# Altium schematic symbol library YGOLib.SchLib: 51 symbols
Pins are listed as number, name and electrical type; pins without a type are passive.

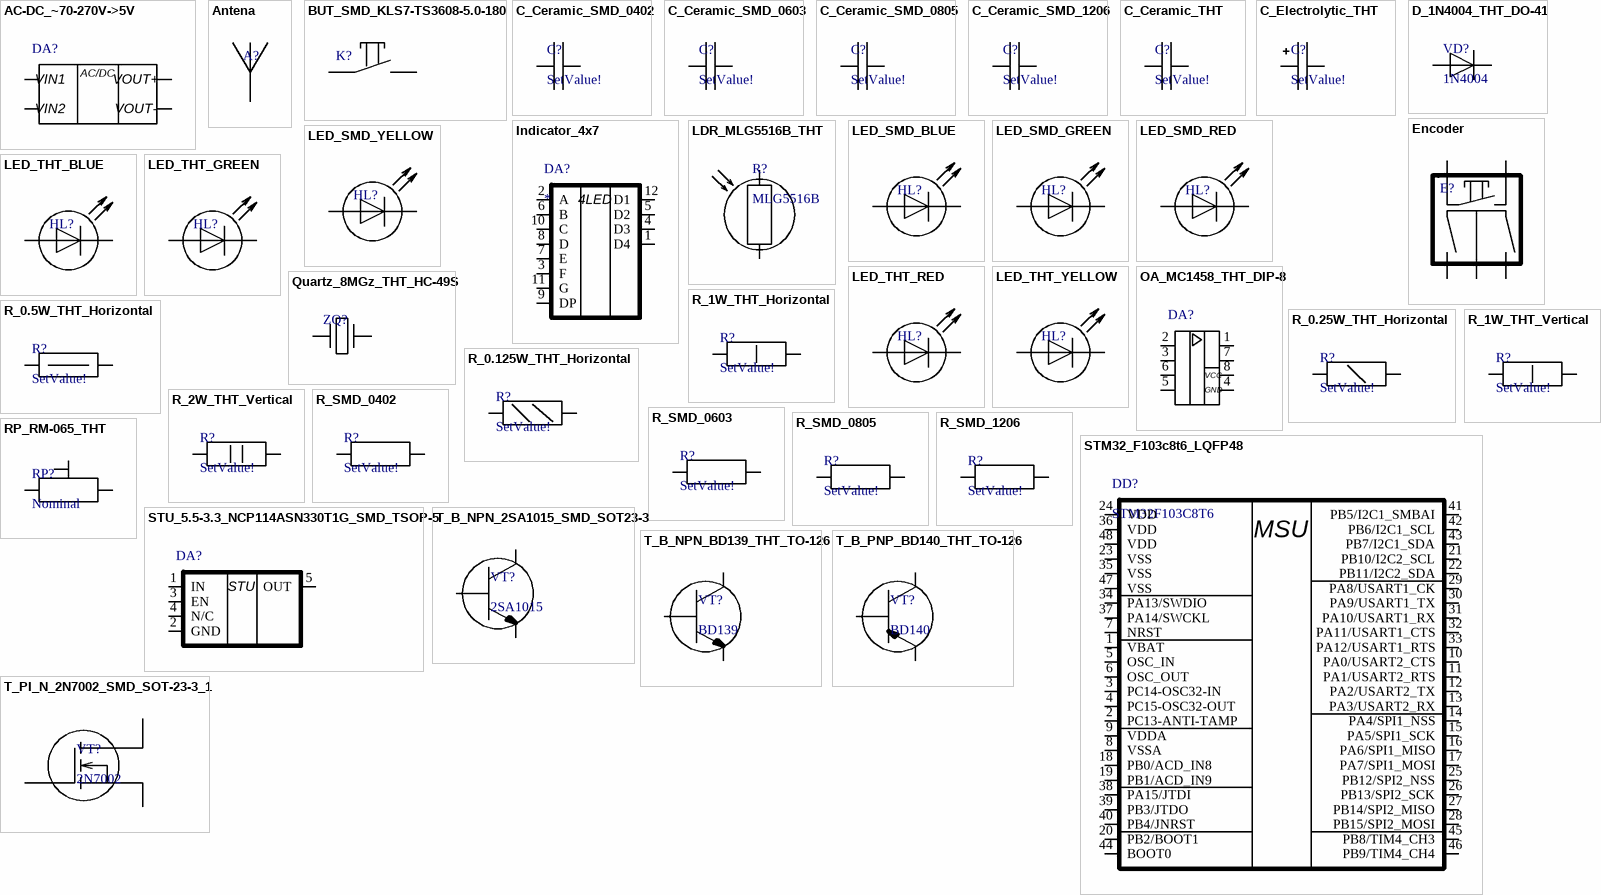
[diagram p0: symbols AC-DC_~70-270V->5V to T_PI_N_2N7002_SMD_SOT-23-3_1]

## AC-DC_~70-270V->5V
designator DA?
pins: 1 VIN+, 2 VIN-, 3 VOUT+, 4 VOUT-
text: AC/DC; VIN1; VIN2

## Antena
designator A?
footprint Antenna_Omnisirectional
pins: 1 (power)

## BUT_SMD_KLS7-TS3608-5.0-180
designator K?
footprint BUT_SMD_KLS7-TS3608-5.0-180
pins: 1, 2

## C_Ceramic_SMD_0402
designator C?, comment SetValue!
footprint C_SMD_0402
pins: 1, 2

## C_Ceramic_SMD_0603
designator C?, comment SetValue!
footprint C_SMD_0603
pins: 1, 2

## C_Ceramic_SMD_0805
designator C?, comment SetValue!
footprint C_SMD_0805
pins: 1, 2

## C_Ceramic_SMD_1206
designator C?, comment SetValue!
footprint C_SMD_1206
pins: 1, 2

## C_Ceramic_THT
designator C?, comment SetValue!
footprint C_Ceramic
pins: 1, 2

## C_Electrolytic_THT
designator C?, comment SetValue!
footprint C_Elecrtplytic
pins: 1, 2

## D_1N4004_THT_DO-41
designator VD?, comment 1N4004
footprint DO-41
pins: 1 (power), 2 (power)

## Encoder
designator E?
footprint ENCODER
pins: 1 E, 2 F, 3 A, 4 B, 5 GND

## Indicator_4x7
designator DA?
footprint 4x7 Inditacor
pins: 1 D4, 2 A, 3 F, 4 D3, 5 D2, 6 B, 7 E, 8 D, 9 DP, 10 C, 11 G, 12 D1
text: 4LED

## LDR_MLG5516B_THT
designator R?, comment MLG5516B
footprint LDR_MLG5516B
pins: 1 (power), 2 (power)

## LED_SMD_BLUE
designator HL?
footprint LED_SMD_BLUE
pins: 1 (power), 2 (power)

## LED_SMD_GREEN
designator HL?
footprint LED_SMD_GREEN
pins: 1 (power), 2 (power)

## LED_SMD_RED
designator HL?
footprint LED_SMD_RED
pins: 1 (power), 2 (power)

## LED_SMD_YELLOW
designator HL?
footprint LED_SMD_YELLOW
pins: 1 (power), 2 (power)

## LED_THT_BLUE
designator HL?
footprint LED_THT_BLUE
pins: 1 (power), 2 (power)

## LED_THT_GREEN
designator HL?
footprint LED_THT_GREEN
pins: 1 (power), 2 (power)

## LED_THT_RED
designator HL?
footprint LED_THT_RED
pins: 1 (power), 2 (power)

## LED_THT_YELLOW
designator HL?
footprint LED_THT_YELLOW
pins: 1 (power), 2 (power)

## OA_MC1458_THT_DIP-8
designator DA?
footprint DIP-8
pins: 1 (power), 2 (power), 3 (power), 4 GND (power), 5 (power), 6 (power), 7 (power), 8 VCC (power)

## Quartz_8MGz_THT_HC-49S
designator ZQ?
footprint Quartz
pins: 1, 2

## R_0.5W_THT_Horizontal
designator R?, comment SetValue!
footprint R_0.5W_H
pins: 1, 2

## R_0.25W_THT_Horizontal
designator R?, comment SetValue!
footprint R_0.25W_H
pins: 1, 2

## R_0.125W_THT_Horizontal
designator R?, comment SetValue!
footprint R_0.125W_H
pins: 1 (power), 2 (power)

## R_1W_THT_Horizontal
designator R?, comment SetValue!
footprint R_1W_H
pins: 1, 2

## R_1W_THT_Vertical
designator R?, comment SetValue!
footprint R_1W_V
pins: 1, 2

## R_2W_THT_Vertical
designator R?, comment SetValue!
footprint R_2W_V
pins: 1, 2

## R_SMD_0402
designator R?, comment SetValue!
footprint R_SMD_0402
pins: 1, 2

## R_SMD_0603
designator R?, comment SetValue!
footprint R_SMD_0603
pins: 1, 2

## R_SMD_0805
designator R?, comment SetValue!
footprint R_SMD_0805
pins: 1, 2

## R_SMD_1206
designator R?, comment SetValue!
footprint R_SMD_1206
pins: 1, 2

## RP_RM-065_THT
designator RP?, comment Nominal
footprint RP_RM-065
pins: 1 (power), 2 (power), 3 (power)

## STM32_F103c8t6_LQFP48
designator DD?, comment STM32F103C8T6
footprint LQFP48
pins: 1 VBAT, 2 PC13-ANTI-TAMP, 3 PC14-OSC32-IN, 4 PC15-OSC32-OUT, 5 OSC_IN, 6 OSC_OUT, 7 NRST, 8 VSSA, 9 VDDA, 10 PA0/USART2_CTS, 11 PA1/USART2_RTS, 12 PA2/USART2_TX, 13 PA3/USART2_RX, 14 PA4/SPI1_NSS, 15 PA5/SPI1_SCK, 16 PA6/SPI1_MISO, 17 PA7/SPI1_MOSI, 18 PB0/ACD_IN8, 19 PB1/ACD_IN9, 20 PB2/BOOT1, 21 PB10/I2C2_SCL, 22 PB11/I2C2_SDA, 23 VSS, 24 VDD, 25 PB12/SPI2_NSS, 26 PB13/SPI2_SCK, 27 PB14/SPI2_MISO, 28 PB15/SPI2_MOSI, 29 PA8/USART1_CK, 30 PA9/USART1_TX, 31 PA10/USART1_RX, 32 PA11/USART1_CTS, 33 PA12/USART1_RTS, 34 PA13/SWDIO, 35 VSS, 36 VDD, 37 PA14/SWCKL, 38 PA15/JTDI, 39 PB3/JTDO, 40 PB4/JNRST, 41 PB5/I2C1_SMBAI, 42 PB6/I2C1_SCL, 43 PB7/I2C1_SDA, 44 BOOT0, 45 PB8/TIM4_CH3, 46 PB9/TIM4_CH4, 47 VSS, 48 VDD
text: MSU

## STU_5.5-3.3_NCP114ASN330T1G_SMD_TSOP-5
designator DA?
footprint TSOP-5
pins: 1 IN, 2 GND, 3 EN, 4 N/C, 5 OUT
text: STU

## T_B_NPN_2SA1015_SMD_SOT23-3
designator VT?, comment 2SA1015
footprint SOT23-3
pins: 1 Б (power), 2 Э (power), 3 К (power)

## T_B_NPN_BD139_THT_TO-126
designator VT?, comment BD139
footprint TO-136_BD139
pins: 1 Э (power), 2 К (power), 3 Б (power)

## T_B_PNP_BD140_THT_TO-126
designator VT?, comment BD140
footprint TO-136_BD140
pins: 1 Э (power), 2 К (power), 3 Б (power)

## T_PI_N_2N7002_SMD_SOT-23-3_1
designator VT?, comment 2N7002
footprint SOT23-3
pins: 1 З, 2 И, 3 C

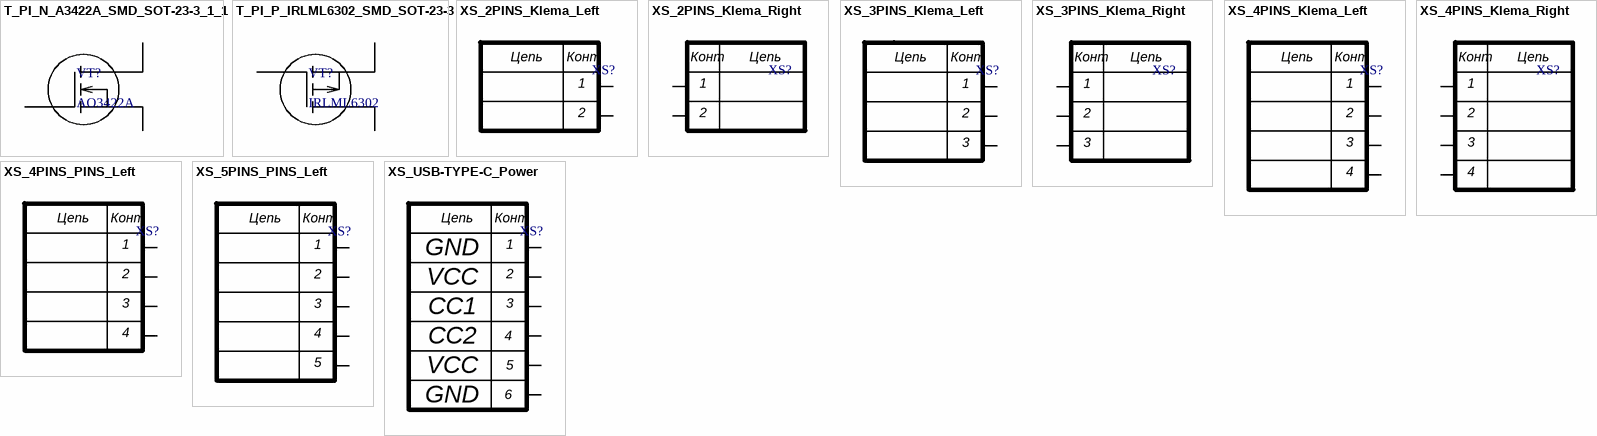
[diagram p1: symbols T_PI_N_A3422A_SMD_SOT-23-3_1_1 to XS_USB-TYPE-C_Power]

## T_PI_N_A3422A_SMD_SOT-23-3_1_1
designator VT?, comment AO3422A
footprint SOT23-3
pins: 1 З, 2 И, 3 C

## T_PI_P_IRLML6302_SMD_SOT-23-3
designator VT?, comment IRLML6302
footprint SOT23-3
pins: 1 З, 2 И, 3 С

## XS_2PINS_Klema_Left
designator XS?
footprint XS_2PINS
pins: 1 (power), 2 (power)
text: Цепь; Конт

## XS_2PINS_Klema_Right
designator XS?
footprint XS_2PINS
pins: 1 (power), 2 (power)
text: Конт; Цепь

## XS_3PINS_Klema_Left
designator XS?
footprint XS_3PINS
pins: 1 (power), 2 (power), 3
text: Цепь; Конт

## XS_3PINS_Klema_Right
designator XS?
footprint XS_3PINS
pins: 1 (power), 2 (power), 3
text: Конт; Цепь

## XS_4PINS_Klema_Left
designator XS?
footprint XS_4PINS
pins: 1 (power), 2 (power), 3, 4
text: Цепь; Конт

## XS_4PINS_Klema_Right
designator XS?
footprint XS_4PINS
pins: 1 (power), 2 (power), 3, 4
text: Конт; Цепь

## XS_4PINS_PINS_Left
designator XS?
footprint 4PINS
pins: 1 (power), 2 (power), 3, 4
text: Цепь; Конт

## XS_5PINS_PINS_Left
designator XS?
footprint 5PINS
pins: 1 (power), 2 (power), 3, 4, 5
text: Цепь; Конт

## XS_USB-TYPE-C_Power
designator XS?
footprint USB-TYPE-C_6P
pins: 1 (power), 2 (power), 3, 4, 5, 6
text: Цепь; Конт; GND; VCC; CC1; CC2